# Altium footprint library Stackpole Electronics.PcbLib: 2 footprints
Each footprint in its own frame and in the unit in brackets; x right, y up, seen from the top. Pads: shape width x height; smd on the part's side, far side on the other; paste and mask are expansions set on the pad; w line width, h text height; cw(c..) or ccw(c..) is an arc to the next point about the centre after c.
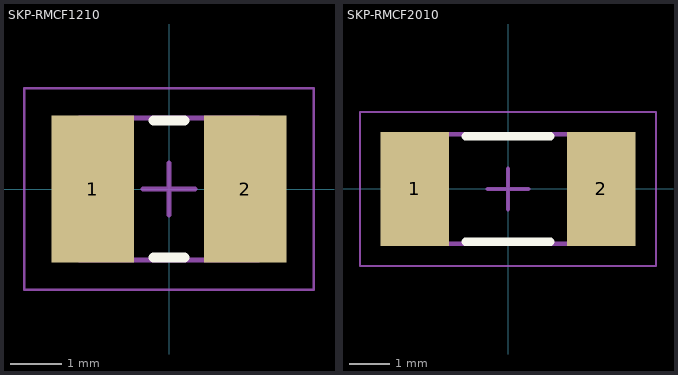
[diagram p0: the footprints below, top view; thin cyan lines are the x and y axes]

## SKP-RMCF1210 [mm] "Chip Resistor, 2-Leads, Body 3.20x2.50mm, IPC Low Density"
height 0.7
pads (2):
  rect 1.6x2.85 smd: 1(-1.475,0) 2(1.475,0)
Top Overlay:
  lines w0.2: -0.3,-1.325 0.3,-1.325 ; -0.3,1.325 0.3,1.325
Mechanical 13:
  lines w0.1: -1.725,-1.375 1.725,-1.375 1.725,1.375 -1.725,1.375 -1.725,-1.375
Mechanical 15:
  lines w0.05: -2.8,-1.95 2.8,-1.95 2.8,1.95 -2.8,1.95 -2.8,-1.95
  lines w0.1: -0.5,0 0.5,0 ; 0,-0.5 0,0.5
3D body "SKP-RMCF1210.step": height 0.7, standoff 0, extent -1.725,-1.375 1.725,1.375

## SKP-RMCF2010 [mm] "Chip Resistor, 2-Leads, Body 5.00x2.50mm, IPC Low Density"
height 0.7
pads (2):
  rect 1.7x2.8 smd: 1(-2.3,0) 2(2.3,0)
Top Overlay:
  lines w0.2: -1.05,-1.3 1.05,-1.3 ; -1.05,1.3 1.05,1.3
Mechanical 13:
  lines w0.1: -2.6,-1.35 -2.6,1.35 2.6,1.35 2.6,-1.35 -2.6,-1.35
Mechanical 15:
  lines w0.05: -3.65,-1.9 -3.65,1.9 3.65,1.9 3.65,-1.9 -3.65,-1.9
  lines w0.1: -0.5,0 0.5,0 ; 0,-0.5 0,0.5
3D body "SKP-RMCF2010.step": height 0.7, standoff 0, extent -2.6,-1.35 2.6,1.35